# Altium schematic symbol library pinhead.SCHLIB: 4 symbols
Pins are listed as number, name and electrical type; pins without a type are passive.

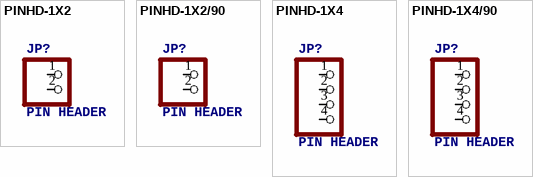
[diagram p0: symbols PINHD-1X2 to PINHD-1X4/90]

## PINHD-1X2
designator JP?, comment PIN HEADER
footprint 1X02
pins: 1, 2

## PINHD-1X2/90
designator JP?, comment PIN HEADER
footprint 1X02/90
pins: 1, 2

## PINHD-1X4
designator JP?, comment PIN HEADER
footprint 1X04
pins: 1, 2, 3, 4

## PINHD-1X4/90
designator JP?, comment PIN HEADER
footprint 1X04/90
pins: 1, 2, 3, 4